# Altium integrated library IRF4905.IntLib: 1 symbol
Pins are listed as number, name and electrical type; pins without a type are passive.

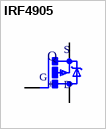
[diagram p0: symbol IRF4905]

## IRF4905
designator Q
P-Channel 55V 74A _Tc_ 200W _Tc_ Through Hole TO-220AB; MF: Infineon Technologies; MP: IRF4905; Value: *; SnapEDA_Link: https://www.snapeda.com/parts/IRF4905/Infineon%20Technologies/view-part/2472453/?ref=snap; Package: TO-263-3 Infineon Technologies; Availability: Unavailable; Price: None
footprint TO220BH
pins: D, G, S